# EAGLE library part MD-80SV (library arcadetv)
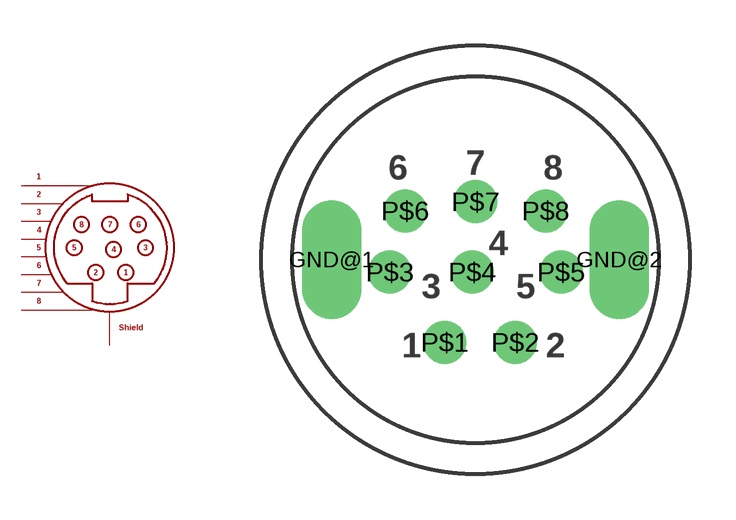
[diagram p11: symbol with the pads of MD-80SV; footprint MD-80SV]

Designator prefix -

## MD-80SV  [MD-80SV]
GND@1  P$9
GND@2  P$9
P$1  P$1
P$2  P$2
P$3  P$3
P$4  P$4
P$5  P$5
P$6  P$6
P$7  P$7
P$8  P$8

## Footprint MD-80SV (pad centres in mm)
drill 1.3 pad 1.676 long: GND@1 -4.7,0; GND@2 4.7,0
drill 0.9: P$1 -1,-2.7; P$2 1.3,-2.7; P$3 -2.8,-0.4; P$4 -0.1,-0.4; P$5 2.8,-0.4; P$6 -2.3,1.6; P$7 0,1.9; P$8 2.3,1.6